# Altium schematic symbol library 10pF ±5% 50V C0G 0603.Schlib: 1 symbol
Pins are listed as number, name and electrical type; pins without a type are passive.

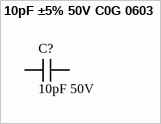
[diagram p0: symbol 10pF ±5% 50V C0G 0603]

## 10pF ±5% 50V C0G 0603
designator C?, comment value 10pF 50V  (hidden comment: Capacitor)
C0G ±5% 10pF 50V 0603 Multilayer Ceramic Capacitors MLCC - SMD/SMT ROHS; LCSC Part #: C1634
footprint CAP 0603_1608 (Chip Capacitor, 2-Leads, Body 1.60x0.80mm, IPC Medium Density)
pins: 1, 2